# EAGLE library part MOD_TWELITE_ANTHOLE (library akita)
MonoWireless's TWE-Lite module
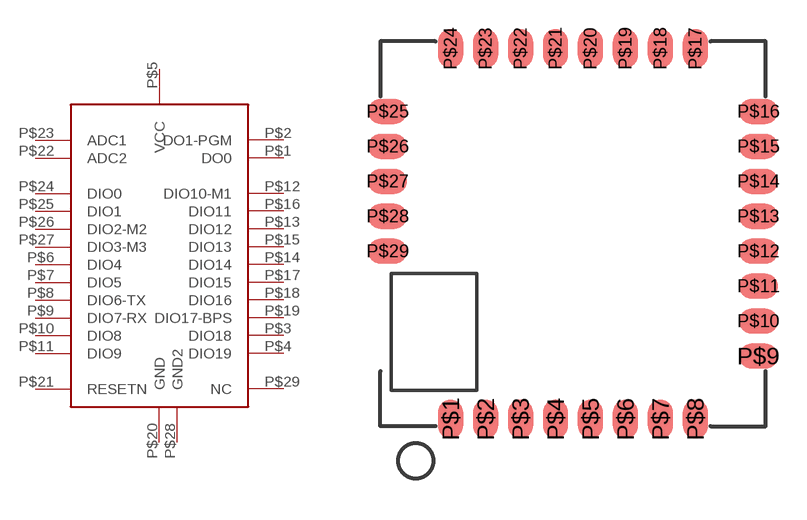
[diagram p187: symbol with the pads of MOD_TWELITE_ANTHOLE; footprint MOD_TWELITE_ANTHOLE]

Designator prefix U

## MOD_TWELITE_ANTHOLE""  [MOD_TWELITE_ANTHOLE]
P$1  DO0
P$2  DO1-PGM
P$3  DIO18
P$4  DIO19
P$5  VCC
P$6  DIO4
P$7  DIO5
P$8  DIO6-TX
P$9  DIO7-RX
P$10  DIO8
P$11  DIO9
P$12  DIO10-M1
P$13  DIO12
P$14  DIO14
P$15  DIO13
P$16  DIO11
P$17  DIO15
P$18  DIO16
P$19  DIO17-BPS
P$20  GND
P$21  RESETN
P$22  ADC2
P$23  ADC1
P$24  DIO0
P$25  DIO1
P$26  DIO2-M2
P$27  DIO3-M3
P$28  GND2
P$29  NC

## Footprint MOD_TWELITE_ANTHOLE (pad centres in mm)
MONOWIRELESS TWE-Lite
smd 0.9 x 1.4: P$1 -4.445,-6.735; P$2 -3.175,-6.735; P$3 -1.905,-6.735; P$4 -0.635,-6.735; P$5 0.635,-6.735; P$6 1.905,-6.735; P$7 3.175,-6.735; P$8 4.445,-6.735; P$17 4.445,6.735; P$18 3.175,6.735; P$19 1.905,6.735; P$20 0.635,6.735; P$21 -0.635,6.735; P$22 -1.905,6.735; P$23 -3.175,6.735; P$24 -4.445,6.735
smd 1.4 x 0.9: P$9 6.735,-4.445; P$10 6.735,-3.175; P$11 6.735,-1.905; P$12 6.735,-0.635; P$13 6.735,0.635; P$14 6.735,1.905; P$15 6.735,3.175; P$16 6.735,4.445; P$25 -6.735,4.445; P$26 -6.735,3.175; P$27 -6.735,1.905; P$28 -6.735,0.635; P$29 -6.735,-0.635